# Altium footprint library CONN_USB_C.PcbLib: 34 footprints (part 2 of 3)
Each footprint in its own frame and in the unit in brackets; x right, y up, seen from the top. Pads: shape width x height; smd on the part's side, far side on the other; paste and mask are expansions set on the pad; w line width, h text height; cw(c..) or ccw(c..) is an arc to the next point about the centre after c.
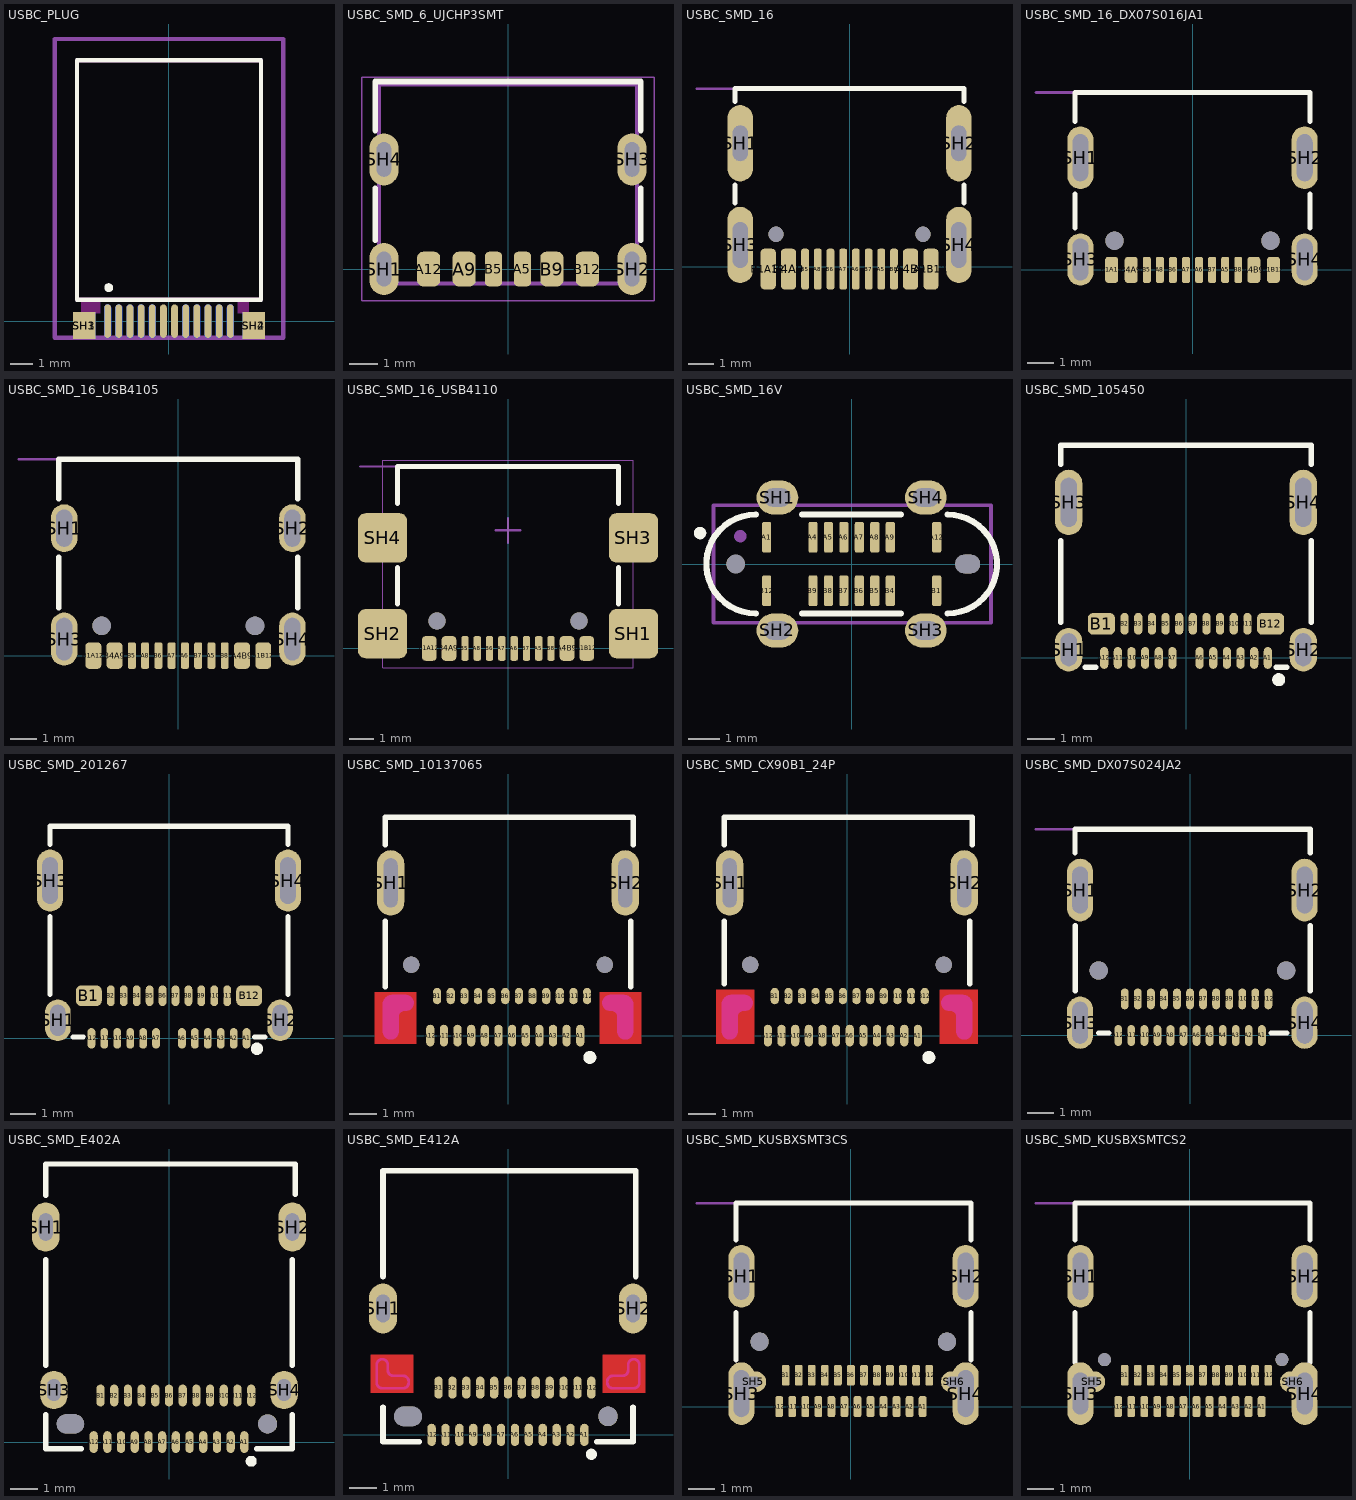
[diagram p1: the footprints below, top view; thin cyan lines are the x and y axes]

## USBC_PLUG [mm] "CONN, USB C , PLUG"
pads (26):
  oval 0.3x1.5 smd mask+0.075: A1(-2.75,0) A2(-2.25,0) A3(-1.75,0) A4(-1.25,0) A5(-0.75,0) A6(-0.25,0) A7(0.25,0) A8(0.75,0) A9(1.25,0) A10(1.75,0) A11(2.25,0) A12(2.75,0)
  oval 0.3x1.5 smd far side mask+0.075: B1(2.75,0) B2(2.25,0) B3(1.75,0) B4(1.25,0) B5(0.75,0) B8(-0.75,0) B9(-1.25,0) B10(-1.75,0) B11(-2.25,0) B12(-2.75,0)
  rect 1x1.2 smd: SH1(-3.8,-0.2) SH2(3.8,-0.2)
  rect 1x1.2 smd far side: SH3(-3.8,-0.2) SH4(3.8,-0.2)
Top Overlay:
  circle w0.2: c-2.7,1.5 r0.1
  lines w0.2: -4.125,0.95 -4.125,11.7 4.125,11.7 4.125,0.95 -4.125,0.95
Bottom Overlay:
  circle w0.2: c2.7,1.5 r0.1
  lines w0.2: -4.125,0.95 -4.125,11.7 4.125,11.7 4.125,0.95 -4.125,0.95
Keep-Out Layer:
  board cut-out: 3.58,0.95 3.58,0.35 3.08,0.35 3.08,0.95
  board cut-out: -3.075,0.95 -3.075,0.35 -3.945,0.35 -3.945,0.95
Keep-Out Layer:
  lines w0.2: -4.125,0.95 -4.125,11.7 4.125,11.7 4.125,0.95 -4.125,0.95
Mechanical 13:
  lines w0.2: -5.125,-0.75 -5.125,12.65 5.125,12.65 5.125,-0.75 -5.125,-0.75
3D body "632712000011.stp": height 1.9, standoff -2.3, extent -5.125,-0.75 5.125,12.65

## USBC_SMD_6_UJCHP3SMT [mm] "CONN, USB, Type C, UJC-HP-3-SMT, popular*"
pads (10):
  rrect50% 0.6x1.2 smd mask+0.075: A5(0.5,0) B5(-0.5,0)
  rrect50% 0.8x1.2 smd mask+0.075: A9(-1.52,0) A12(-2.75,0) B9(1.52,0) B12(2.75,0)
  oval 1x1.8 hole 0.5 slot 1.2 at 90 deg: SH1(-4.3,0) SH2(4.3,0) SH3(4.3,3.8) SH4(-4.3,3.8)
Top Overlay:
  lines w0.2: -4.6,1 -4.6,2.8 ; -4.6,4.8 -4.6,6.5 4.6,6.5 4.6,4.8 ; 4.6,1 4.6,2.8
Mechanical 13:
  lines w0.127: -4.47,-0.5 -4.47,6.4 4.47,6.4 4.47,-0.5 -4.47,-0.5
Mechanical 15:
  lines w0.05: -5.07,-1.1 -5.07,6.65 5.07,6.65 5.07,-1.1 -5.07,-1.1
3D body "UJC-HP-3-SMT-TR.step": height 3.23, standoff -1.03, extent -4.47,-0.519 4.47,6.381

## USBC_SMD_16 [mm] "CONN, USB, Type C, 2171790001"
height 3.31
pads (18):
  rrect50% 0.6x1.6 smd mask+0.05: A1B12(3.2,-0.1) A4B9(2.4,-0.1) B1A12(-3.2,-0.1) B4A9(-2.4,-0.1)
  rrect50% 0.3x1.6 smd mask+0.05: A5(1.25,-0.1) A6(0.25,-0.1) A7(-0.25,-0.1) A8(-1.25,-0.1) B5(-1.75,-0.1) B6(-0.75,-0.1) B7(0.75,-0.1) B8(1.75,-0.1)
  oval 1x3 hole 0.6 slot 1.4 at 90 deg mask+0.075: SH1(-4.3,4.85) SH2(4.3,4.85)
  oval 1x3 hole 0.6 slot 1.8 at 90 deg mask+0.075: SH3(-4.3,0.85) SH4(4.3,0.85)
  round 0.6 hole 0.6 unplated mask+0.075: ""(-2.89,1.27) ""(2.89,1.27)
Top Overlay:
  lines w0.2: -4.5,2.5 -4.5,3.2 ; -4.5,6.5 -4.5,7 4.5,7 4.5,6.5 ; 4.5,2.5 4.5,3.2
Mechanical 13:
  lines w0.1: -6,7 -4,7
  text "PCB EDGE" at -6,7.4 h0.8
3D body "step_temp.STEP": height 3.25, standoff -1.01, extent -4.475,-0.155 4.475,7.565

## USBC_SMD_16_DX07S016JA1 [mm] "CONN, USB, Type C, DX07S016JA1, popular*"
height 3.31
pads (18):
  rrect50% 0.5x1 smd mask+0.075: A1B12(3.1,0) A4B9(2.35,0) B1A12(-3.1,0) B4A9(-2.35,0)
  rrect50% 0.3x1 smd mask+0.075: A5(1.25,0) A6(0.25,0) A7(-0.25,0) A8(-1.25,0) B5(-1.75,0) B6(-0.75,0) B7(0.75,0) B8(1.75,0)
  oval 1x2.4 hole 0.6 slot 1.8 at 90 deg: SH1(-4.3,4.3) SH2(4.3,4.3)
  oval 1x2 hole 0.6 slot 1.6 at 90 deg: SH3(-4.3,0.4) SH4(4.3,0.4)
  round 0.7 hole 0.7 unplated: ""(-2.99,1.12) ""(2.99,1.12)
Top Overlay:
  lines w0.2: -4.5,1.6 -4.5,2.9 ; -4.5,5.7 -4.5,6.8 4.5,6.8 4.5,5.7 ; 4.5,1.6 4.5,2.9
Mechanical 13:
  lines w0.1: -6,6.8 -4,6.8
  text "PCB EDGE" at -6,7.2 h0.8
3D body "DX07S016JA1.STEP": height 3.18, standoff -0.88, extent -4.47,-0.2 4.47,6.7

## USBC_SMD_16_USB4105 [mm] "CONN, USB, Type C, USB4105, popular*"
height 3.31
pads (18):
  rrect50% 0.6x1 smd mask+0.075: A1B12(3.2,0) A4B9(2.4,0) B1A12(-3.2,0) B4A9(-2.4,0)
  rrect50% 0.3x1 smd mask+0.075: A5(1.25,0) A6(0.25,0) A7(-0.25,0) A8(-1.25,0) B5(-1.75,0) B6(-0.75,0) B7(0.75,0) B8(1.75,0)
  oval 1x1.8 hole 0.6 slot 1.4 at 90 deg: SH1(-4.3,4.8) SH2(4.3,4.8)
  oval 1x2 hole 0.6 slot 1.6 at 90 deg: SH3(-4.3,0.62) SH4(4.3,0.62)
  round 0.7 hole 0.7 unplated: ""(-2.89,1.12) ""(2.89,1.12)
Top Overlay:
  lines w0.2: -4.5,1.8 -4.5,3.7 ; -4.5,5.9 -4.5,7.4 4.5,7.4 4.5,5.9 ; 4.5,1.8 4.5,3.7
Mechanical 13:
  lines w0.1: -6,7.4 -4,7.4
  text "PCB EDGE" at -6,7.8 h0.8
3D body "USB4105-15-A.stp": height 3.26, standoff -0.9, extent -4.79,-0.3 4.79,7.408

## USBC_SMD_16_USB4110 [mm] "CONN, USB, Type C, USB4110"
height 3.26
pads (18):
  rrect50% 0.6x1 smd mask+0.075: A1B12(3.2,0) A4B9(2.4,0) B1A12(-3.2,0) B4A9(-2.4,0)
  rrect50% 0.3x1 smd mask+0.075: A5(1.25,0) A6(0.25,0) A7(-0.25,0) A8(-1.25,0) B5(-1.75,0) B6(-0.75,0) B7(0.75,0) B8(1.75,0)
  rrect30% 2x2 smd: SH1(5.1,0.6) SH2(-5.1,0.6) SH3(5.1,4.5) SH4(-5.1,4.5)
  round 0.7 hole 0.7 unplated: ""(-2.89,1.12) ""(2.89,1.12)
Top Overlay:
  lines w0.2: -4.5,1.8 -4.5,3.3 ; -4.5,5.9 -4.5,7.4 4.5,7.4 4.5,5.9 ; 4.5,1.8 4.5,3.3
Mechanical 13:
  lines w0.1: -6,7.4 -4,7.4
  text "PCB EDGE" at -6,7.8 h0.8
Mechanical 15:
  lines w0.05: -5.1,-0.78 -5.1,7.65 5.1,7.65 5.1,-0.78 -5.1,-0.78
  lines w0.1: -0.5,4.8 0.5,4.8 ; 0,4.3 0,5.3
3D body "USB4110-GF-A.stp": height 3.23, standoff -0.72, extent -5.65,-0.28 5.65,7.396

## USBC_SMD_16V [mm] "CONN, USB, Type C, SMD Vertical"
height 6.5
pads (22):
  rrect50% 0.3x1 smd mask+0.05: A1(-2.75,0.865) A4(-1.25,0.865) A5(-0.75,0.865) A6(-0.25,0.865) A7(0.25,0.865) A8(0.75,0.865) A9(1.25,0.865) A12(2.75,0.865) B1(2.75,-0.865) B4(1.25,-0.865) B5(0.75,-0.865) B6(0.25,-0.865) B7(-0.25,-0.865) B8(-0.75,-0.865) B9(-1.25,-0.865) B12(-2.75,-0.865)
  oval 1.35x1.1 hole 0.6 slot 0.85 at 0 deg: SH1(-2.4,2.15) SH2(-2.4,-2.15) SH3(2.4,-2.15) SH4(2.4,2.15)
  round 0.6 hole 0.6 unplated: ""(-3.75,0)
  oval 0.8x0.6 hole 0.6 slot 0.8 at 0 deg unplated: ""(3.75,0)
Top Overlay:
  circle w0.2: c-4.9,1 r0.1
  lines w0.2: -3.1,-1.6 cw(c-3.1,0) -3.1,1.6 ; -1.6,-1.6 1.6,-1.6 ; -1.6,1.6 1.6,1.6 ; 3.1,-1.6 ccw(c3.1,0) 3.1,1.6
Bottom Solder:
  region: 3.888,0.358 3.906,0.356 3.925,0.352 3.943,0.348 3.961,0.342 3.979,0.336 3.996,0.329 4.013,0.321 4.03,0.312 4.046,0.302 4.062,0.291 4.077,0.28 4.091,0.268 4.105,0.255 4.118,0.241 4.13,0.227 4.141,0.212 4.152,0.196 4.162,0.18 4.171,0.163 4.179,0.146 4.186,0.129 4.192,0.111 4.198,0.093 4.202,0.075 4.206,0.056 4.208,0.038 4.21,0.019 4.21,0 4.21,-0.019 4.208,-0.038 4.206,-0.056 4.202,-0.075 4.198,-0.093 4.192,-0.111 4.186,-0.129 4.179,-0.146 4.171,-0.163 4.162,-0.18 4.152,-0.196 4.141,-0.212 4.13,-0.227 4.118,-0.241 4.105,-0.255 4.091,-0.268 4.077,-0.28 4.062,-0.291 4.046,-0.302 4.03,-0.312 4.013,-0.321 3.996,-0.329 3.979,-0.336 3.961,-0.342 3.943,-0.348 3.925,-0.352 3.906,-0.356 3.888,-0.358 3.869,-0.36 3.631,-0.36 3.612,-0.358 3.594,-0.356 3.575,-0.352 3.557,-0.348 3.539,-0.342 3.521,-0.336 3.504,-0.329 3.487,-0.321 3.47,-0.312 3.454,-0.302 3.438,-0.291 3.423,-0.28 3.409,-0.268 3.395,-0.255 3.382,-0.241 3.37,-0.227 3.359,-0.212 3.348,-0.196 3.338,-0.18 3.329,-0.163 3.321,-0.146 3.314,-0.129 3.308,-0.111 3.302,-0.093 3.298,-0.075 3.294,-0.056 3.292,-0.038 3.29,-0.019 3.29,0 3.29,0.019 3.292,0.038 3.294,0.056 3.298,0.075 3.302,0.093 3.308,0.111 3.314,0.129 3.321,0.146 3.329,0.163 3.338,0.18 3.348,0.196 3.359,0.212 3.37,0.227 3.382,0.241 3.395,0.255 3.409,0.268 3.423,0.28 3.438,0.291 3.454,0.302 3.47,0.312 3.487,0.321 3.504,0.329 3.521,0.336 3.539,0.342 3.557,0.348 3.575,0.352 3.594,0.356 3.612,0.358 3.631,0.36 3.869,0.36
Mechanical 13:
  circle w0.2: c-3.6,0.9 r0.1
  lines w0.127: -4.47,-1.9 -4.47,1.9 4.5,1.9 4.5,-1.9 -4.47,-1.9
3D body "UJ20-C-V-C-1-SMT.step": height 6.5, standoff -0.95, extent -4.47,-2.3 4.47,2.3

## USBC_SMD_105450 [mm] "CONN, USB, Type C, SMD"
height 2.96
pads (28):
  oval 0.3x0.8 smd mask+0.075: A1(3,0) A2(2.5,0) A3(2,0) A4(1.5,0) A5(1,0) A6(0.5,0) A7(-0.5,0) A8(-1,0) A9(-1.5,0) A10(-2,0) A11(-2.5,0) A12(-3,0) B2(-2.25,1.25) B3(-1.75,1.25) B4(-1.25,1.25) B5(-0.75,1.25) B6(-0.25,1.25) B7(0.25,1.25) B8(0.75,1.25) B9(1.25,1.25) B10(1.75,1.25) B11(2.25,1.25)
  rrect50% 1x0.8 smd mask+0.075: B1(-3.1,1.25) B12(3.1,1.25)
  oval 1x1.6 hole 0.6 slot 1.2 at 90 deg: SH1(-4.3,0.3) SH2(4.3,0.3)
  oval 1x2.4 hole 0.6 slot 1.8 at 90 deg: SH3(-4.3,5.7) SH4(4.3,5.7)
Top Overlay:
  circle w0.25: c3.4,-0.8 r0.114
  lines w0.2: -4.6,1.3 -4.6,4.3 ; -4.6,7.1 -4.6,7.8 4.6,7.8 4.6,7.1 ; -3.7,-0.35 -3.3,-0.35 ; 3.3,-0.35 3.7,-0.35 ; 4.6,1.3 4.6,4.3
3D body "105450-0101.stp": height 3.23, standoff -0.73, extent -4.47,-0.25 4.47,7.65

## USBC_SMD_201267 [mm] "CONN, USB, Type C, SMD"
height 2.96
pads (28):
  oval 0.3x0.8 smd mask+0.075: A1(3,0) A2(2.5,0) A3(2,0) A4(1.5,0) A5(1,0) A6(0.5,0) A7(-0.5,0) A8(-1,0) A9(-1.5,0) A10(-2,0) A11(-2.5,0) A12(-3,0) B2(-2.25,1.65) B3(-1.75,1.65) B4(-1.25,1.65) B5(-0.75,1.65) B6(-0.25,1.65) B7(0.25,1.65) B8(0.75,1.65) B9(1.25,1.65) B10(1.75,1.65) B11(2.25,1.65)
  rrect50% 1x0.8 smd mask+0.075: B1(-3.1,1.65) B12(3.1,1.65)
  oval 1x1.6 hole 0.6 slot 1.2 at 90 deg: SH1(-4.3,0.7) SH2(4.3,0.7)
  oval 1x2.4 hole 0.6 slot 1.8 at 90 deg: SH3(-4.6,6.1) SH4(4.6,6.1)
Top Overlay:
  circle w0.25: c3.4,-0.4 r0.114
  lines w0.2: -4.6,1.7 -4.6,4.7 ; -4.6,7.5 -4.6,8.2 4.6,8.2 4.6,7.5 ; -3.7,0.05 -3.3,0.05 ; 3.3,0.05 3.7,0.05 ; 4.6,1.7 4.6,4.7
3D body "2012670005-000.stp": height 3.72, standoff -2.29, extent -4.695,-0.3 4.695,8

## USBC_SMD_10137065 [mm] "CONN, USB, Type C, SMD"
height 2.96
pads (28):
  oval 0.3x0.8 smd mask+0.075: A1(2.65,0) A2(2.15,0) A3(1.65,0) A4(1.15,0) A5(0.65,0) A6(0.15,0) A7(-0.35,0) A8(-0.85,0) A9(-1.35,0) A10(-1.85,0) A11(-2.35,0) A12(-2.85,0)
  oval 0.3x0.6 smd mask+0.075: B1(-2.6,1.45) B2(-2.1,1.45) B3(-1.6,1.45) B4(-1.1,1.45) B5(-0.6,1.45) B6(-0.1,1.45) B7(0.4,1.45) B8(0.9,1.45) B9(1.4,1.45) B10(1.9,1.45) B11(2.4,1.45) B12(2.9,1.45)
  oval 1x2.4 hole 0.5 slot 1.8 at 90 deg: SH1(-4.3,5.6) SH2(4.3,5.6)
  round 0.6 hole 0.6 unplated: ""(-3.55,2.6) ""(3.55,2.6)
Top Layer:
  region: -3.35,1.6 -4.9,1.6 -4.9,-0.3 -3.35,-0.3
  rectangle: 3.35,-0.3 4.9,1.6
Top Overlay:
  circle w0.25: c3,-0.8 r0.114
  lines w0.2: -4.5,1.8 -4.5,4.2 ; -4.5,7 -4.5,8 4.6,8 4.6,7 ; 4.5,1.8 4.5,4.2
Keep-Out Layer:
  board cut-out: -4.3,-0.1 -4.35,-0.1 -4.442,-0.062 -4.512,0.008 -4.55,0.1 -4.55,0.15 -4.55,1.15 -4.55,1.21 -4.504,1.32 -4.42,1.404 -4.31,1.45 -4.25,1.45 -3.75,1.45 -3.7,1.45 -3.608,1.412 -3.538,1.342 -3.5,1.25 -3.5,1.2 -3.5,1.15 -3.538,1.058 -3.608,0.988 -3.7,0.95 -3.75,0.95 -3.8,0.95 -3.849,0.945 -3.939,0.908 -4.008,0.839 -4.045,0.749 -4.05,0.7 -4.05,0.15 -4.05,0.1 -4.088,0.008 -4.158,-0.062 -4.25,-0.1
  board cut-out: 4.3,-0.1 4.35,-0.1 4.442,-0.062 4.512,0.008 4.55,0.1 4.55,0.15 4.55,1.15 4.55,1.21 4.504,1.32 4.42,1.404 4.31,1.45 4.25,1.45 3.75,1.45 3.7,1.45 3.608,1.412 3.538,1.342 3.5,1.25 3.5,1.2 3.5,1.15 3.538,1.058 3.608,0.988 3.7,0.95 3.75,0.95 3.8,0.95 3.849,0.945 3.939,0.908 4.008,0.839 4.045,0.749 4.05,0.7 4.05,0.15 4.05,0.1 4.088,0.008 4.158,-0.062 4.25,-0.1
Keep-Out Layer:
  lines w0.1: -4.55,0.15 ccw(c-4.3,0.15) -4.3,-0.1 ccw(c-4.3,0.15) -4.05,0.15 -4.05,0.7 cw(c-3.8,0.7) -3.8,0.95 -3.75,0.95 ccw(c-3.75,1.2) -3.5,1.2 ccw(c-3.75,1.2) -3.75,1.45 -4.25,1.45 ccw(c-4.25,1.15) -4.55,1.15 -4.55,0.15 ; 3.5,1.2 ccw(c3.75,1.2) 3.75,0.95 3.8,0.95 cw(c3.8,0.7) 4.05,0.7 4.05,0.15 ccw(c4.3,0.15) 4.3,-0.1 ccw(c4.3,0.15) 4.55,0.15 4.55,1.15 ccw(c4.25,1.15) 4.25,1.45 3.75,1.45 ccw(c3.75,1.2) 3.5,1.2
Mechanical 1:
  lines w0.5: -4.3,0.15 -4.3,1.2 -3.75,1.2 ; 3.75,1.2 4.3,1.2 4.3,0.15
3D body "10137065..stp": height 3.21, standoff -0.55, extent -4.445,-0.2 4.495,7.95

## USBC_SMD_CX90B1_24P [mm] "CONN, USB, Type C, SMD, CX90B1-24P"
height 2.96
pads (28):
  oval 0.3x0.8 smd mask+0.075: A1(2.6,0) A2(2.1,0) A3(1.6,0) A4(1.1,0) A5(0.6,0) A6(0.1,0) A7(-0.4,0) A8(-0.9,0) A9(-1.4,0) A10(-1.9,0) A11(-2.4,0) A12(-2.9,0)
  oval 0.3x0.6 smd mask+0.075: B1(-2.65,1.45) B2(-2.15,1.45) B3(-1.65,1.45) B4(-1.15,1.45) B5(-0.65,1.45) B6(-0.15,1.45) B7(0.35,1.45) B8(0.85,1.45) B9(1.35,1.45) B10(1.85,1.45) B11(2.35,1.45) B12(2.85,1.45)
  oval 1x2.4 hole 0.5 slot 1.8 at 90 deg: SH1(-4.3,5.6) SH2(4.3,5.6)
  round 0.6 hole 0.6 unplated: ""(-3.55,2.6) ""(3.55,2.6)
Top Layer:
  rectangle: -4.8,-0.3 -3.4,1.7
  region: 4.8,1.7 3.4,1.7 3.4,-0.3 4.8,-0.3
Top Overlay:
  circle w0.25: c3,-0.8 r0.114
  lines w0.2: -4.5,1.9 -4.5,4.2 ; -4.5,7 -4.5,8 4.6,8 4.6,7 ; 4.5,1.9 4.5,4.2
Keep-Out Layer:
  board cut-out: 4.3,-0.1 4.35,-0.1 4.442,-0.062 4.512,0.008 4.55,0.1 4.55,0.15 4.55,1.15 4.55,1.21 4.504,1.32 4.42,1.404 4.31,1.45 4.25,1.45 3.75,1.45 3.7,1.45 3.608,1.412 3.538,1.342 3.5,1.25 3.5,1.2 3.5,1.15 3.538,1.058 3.608,0.988 3.7,0.95 3.75,0.95 3.8,0.95 3.849,0.945 3.939,0.908 4.008,0.839 4.045,0.749 4.05,0.7 4.05,0.15 4.05,0.1 4.088,0.008 4.158,-0.062 4.25,-0.1
  board cut-out: -4.3,-0.1 -4.35,-0.1 -4.442,-0.062 -4.512,0.008 -4.55,0.1 -4.55,0.15 -4.55,1.15 -4.55,1.21 -4.504,1.32 -4.42,1.404 -4.31,1.45 -4.25,1.45 -3.75,1.45 -3.7,1.45 -3.608,1.412 -3.538,1.342 -3.5,1.25 -3.5,1.2 -3.5,1.15 -3.538,1.058 -3.608,0.988 -3.7,0.95 -3.75,0.95 -3.8,0.95 -3.849,0.945 -3.939,0.908 -4.008,0.839 -4.045,0.749 -4.05,0.7 -4.05,0.15 -4.05,0.1 -4.088,0.008 -4.158,-0.062 -4.25,-0.1
Keep-Out Layer:
  lines w0.1: -4.55,0.15 ccw(c-4.3,0.15) -4.3,-0.1 ccw(c-4.3,0.15) -4.05,0.15 -4.05,0.7 cw(c-3.8,0.7) -3.8,0.95 -3.75,0.95 ccw(c-3.75,1.2) -3.5,1.2 ccw(c-3.75,1.2) -3.75,1.45 -4.25,1.45 ccw(c-4.25,1.15) -4.55,1.15 -4.55,0.15 ; 3.5,1.2 ccw(c3.75,1.2) 3.75,0.95 3.8,0.95 cw(c3.8,0.7) 4.05,0.7 4.05,0.15 ccw(c4.3,0.15) 4.3,-0.1 ccw(c4.3,0.15) 4.55,0.15 4.55,1.15 ccw(c4.25,1.15) 4.25,1.45 3.75,1.45 ccw(c3.75,1.2) 3.5,1.2
Mechanical 1:
  lines w0.5: -4.3,0.15 -4.3,1.2 -3.75,1.2 ; 3.75,1.2 4.3,1.2 4.3,0.15
3D body "CX90B1-24P.stp": height 3.19, standoff -0.57, extent -4.495,-0.2 4.445,7.95

## USBC_SMD_DX07S024JA2 [mm] "CONN, USB, Type C, DX07S024JA2"
height 3.31
pads (30):
  oval 0.3x0.8 smd mask+0.075: A1(2.75,0) A2(2.25,0) A3(1.75,0) A4(1.25,0) A5(0.75,0) A6(0.25,0) A7(-0.25,0) A8(-0.75,0) A9(-1.25,0) A10(-1.75,0) A11(-2.25,0) A12(-2.75,0) B1(-2.5,1.4) B2(-2,1.4) B3(-1.5,1.4) B4(-1,1.4) B5(-0.5,1.4) B6(0,1.4) B7(0.5,1.4) B8(1,1.4) B9(1.5,1.4) B10(2,1.4) B11(2.5,1.4) B12(3,1.4)
  oval 1x2.4 hole 0.6 slot 1.8 at 90 deg: SH1(-4.21,5.57) SH2(4.39,5.57)
  oval 1x2 hole 0.6 slot 1.6 at 90 deg: SH3(-4.21,0.49) SH4(4.39,0.49)
  round 0.7 hole 0.7 unplated: ""(-3.5,2.49) ""(3.68,2.49)
Top Overlay:
  lines w0.2: -4.41,7 -4.41,7.9 4.6,7.9 4.6,7 ; -4.4,1.7 -4.4,4.2 ; -3.5,0.1 -3.1,0.1 ; 3.1,0.1 3.7,0.1 ; 4.6,1.7 4.6,4.2
Mechanical 13:
  lines w0.1: -5.9,7.9 -3.9,7.9
  text "PCB EDGE" at -5.8,8.1 h0.8
3D body "DX07S024JA2.STEP": height 3.17, standoff -1.17, extent -4.355,-0.3 4.585,7.87

## USBC_SMD_E402A [mm] "CONN, USB, Type C, SMD, 12401598E4#2A, 12401610E4#2A"
height 3.2
pads (30):
  oval 0.3x0.8 smd mask+0.075: A1(2.75,0) A2(2.25,0) A3(1.75,0) A4(1.25,0) A5(0.75,0) A6(0.25,0) A7(-0.25,0) A8(-0.75,0) A9(-1.25,0) A10(-1.75,0) A11(-2.25,0) A12(-2.75,0) B1(-2.5,1.7) B2(-2,1.7) B3(-1.5,1.7) B4(-1,1.7) B5(-0.5,1.7) B6(0,1.7) B7(0.5,1.7) B8(1,1.7) B9(1.5,1.7) B10(2,1.7) B11(2.5,1.7) B12(3,1.7)
  oval 1x1.8 hole 0.5 slot 1 at 90 deg: SH1(-4.5,7.85) SH2(4.5,7.85)
  oval 1x1.4 hole 0.5 slot 0.8 at 90 deg: SH3(-4.2,1.9) SH4(4.2,1.9)
  oval 1x0.7 hole 0.7 slot 1 at 0 deg unplated mask+0.05: ""(-3.6,0.665)
  round 0.7 hole 0.7 unplated mask+0.05: ""(3.6,0.665)
Top Overlay:
  circle w0.2: c3,-0.7 r0.1
  lines w0.2: -4.5,1 -4.5,-0.25 -3.2,-0.25 ; -4.5,2.8 -4.5,6.65 ; -4.5,9 -4.5,10.15 4.6,10.15 4.6,9.05 ; 3.2,-0.25 4.5,-0.25 4.5,1 ; 4.5,2.8 4.5,6.65
3D body "12401610E4#2A.step": height 3.3, standoff -1.28, extent -4.6,-0.3 4.6,10.25

## USBC_SMD_E412A [mm] "CONN, USB, Type C, SMD, 12401899E412A"
height 3.2
pads (28):
  oval 0.3x0.8 smd mask+0.075: A1(2.75,0) A2(2.25,0) A3(1.75,0) A4(1.25,0) A5(0.75,0) A6(0.25,0) A7(-0.25,0) A8(-0.75,0) A9(-1.25,0) A10(-1.75,0) A11(-2.25,0) A12(-2.75,0) B1(-2.5,1.7) B2(-2,1.7) B3(-1.5,1.7) B4(-1,1.7) B5(-0.5,1.7) B6(0,1.7) B7(0.5,1.7) B8(1,1.7) B9(1.5,1.7) B10(2,1.7) B11(2.5,1.7) B12(3,1.7)
  oval 1x1.8 hole 0.5 slot 1 at 90 deg: SH1(-4.5,4.55) SH2(4.5,4.55)
  oval 1x0.7 hole 0.7 slot 1 at 0 deg unplated mask+0.05: ""(-3.6,0.665)
  round 0.7 hole 0.7 unplated mask+0.05: ""(3.6,0.665)
Top Layer:
  rectangle: -4.95,1.5 -3.4,2.9
  region: 4.95,2.9 3.4,2.9 3.4,1.5 4.95,1.5
Top Overlay:
  circle w0.2: c3,-0.7 r0.1
  lines w0.2: -4.5,1 -4.5,-0.25 -3.2,-0.25 ; -4.5,5.7 -4.5,9.5 4.6,9.5 4.6,5.7 ; 3.2,-0.25 4.5,-0.25 4.5,1
Keep-Out Layer:
  lines w0.1: -4.725,1.875 ccw(c-4.525,1.875) -4.525,1.675 -3.775,1.675 ccw(c-3.775,1.875) -3.575,1.875 -3.575,1.925 ccw(c-3.775,1.925) -3.775,2.125 -4.125,2.125 cw(c-4.125,2.325) -4.325,2.325 -4.325,2.525 ccw(c-4.525,2.525) -4.525,2.725 ccw(c-4.525,2.525) -4.725,2.525 -4.725,1.875 ; 3.575,1.875 ccw(c3.775,1.875) 3.775,1.675 4.525,1.675 ccw(c4.525,1.875) 4.725,1.875 4.725,2.525 ccw(c4.525,2.525) 4.525,2.725 ccw(c4.525,2.525) 4.325,2.525 4.325,2.325 cw(c4.125,2.325) 4.125,2.125 3.775,2.125 ccw(c3.775,1.925) 3.575,1.925 3.575,1.875
Mechanical 1:
  lines w0.5: -4.525,2.5 -4.525,1.9 -3.8,1.9 ; 3.8,1.9 4.525,1.9 4.525,2.5
3D body "12401899.stp": height 3.45, standoff -0.9, extent -4.59,-0.3 4.59,9.35

## USBC_SMD_KUSBXSMT3CS [mm] "CONN, USB, Type C, KUSBX-SMT3-CS"
height 3.31
pads (32):
  rrect50% 0.3x0.8 smd mask+0.075: A1(2.75,0) A2(2.25,0) A3(1.75,0) A4(1.25,0) A5(0.75,0) A6(0.25,0) A7(-0.25,0) A8(-0.75,0) A9(-1.25,0) A10(-1.75,0) A11(-2.25,0) A12(-2.75,0) B1(-2.5,1.2) B2(-2,1.2) B3(-1.5,1.2) B4(-1,1.2) B5(-0.5,1.2) B6(0,1.2) B7(0.5,1.2) B8(1,1.2) B9(1.5,1.2) B10(2,1.2) B11(2.5,1.2) B12(3,1.2)
  oval 1x2.4 hole 0.6 slot 1.8 at 90 deg: SH1(-4.2,5) SH2(4.4,5) SH3(-4.2,0.5) SH4(4.4,0.5)
  oval 1x0.8 hole 0.4 slot 0.6 at 0 deg: SH5(-3.75,0.95) SH6(3.95,0.95)
  round 0.7 hole 0.7 unplated: ""(-3.5,2.49) ""(3.68,2.49)
Top Overlay:
  lines w0.2: -4.41,6.4 -4.41,7.8 4.6,7.8 4.6,6.4 ; -4.4,1.8 -4.4,3.6 ; 4.6,1.8 4.6,3.6
Mechanical 13:
  lines w0.1: -5.9,7.8 -3.9,7.8
  text "PCB EDGE" at -5.8,8 h0.8
3D body "KUSBX-SMT3-CS.STEP": height 3.21, standoff -1.95, extent -4.345,-0.4 4.595,7.7

## USBC_SMD_KUSBXSMTCS2 [mm] "CONN, USB, Type C, KUSBX-SMT-CS2"
height 3.31
pads (32):
  rrect50% 0.3x0.8 smd mask+0.075: A1(2.75,0) A2(2.25,0) A3(1.75,0) A4(1.25,0) A5(0.75,0) A6(0.25,0) A7(-0.25,0) A8(-0.75,0) A9(-1.25,0) A10(-1.75,0) A11(-2.25,0) A12(-2.75,0) B1(-2.5,1.2) B2(-2,1.2) B3(-1.5,1.2) B4(-1,1.2) B5(-0.5,1.2) B6(0,1.2) B7(0.5,1.2) B8(1,1.2) B9(1.5,1.2) B10(2,1.2) B11(2.5,1.2) B12(3,1.2)
  oval 1x2.4 hole 0.6 slot 1.8 at 90 deg: SH1(-4.2,5) SH2(4.4,5)
  oval 1x2.4 hole 0.6 slot 1.6 at 90 deg: SH3(-4.2,0.5) SH4(4.4,0.5)
  oval 1x0.8 hole 0.4 slot 0.6 at 0 deg: SH5(-3.75,0.95) SH6(3.95,0.95)
  round 0.5 hole 0.5 unplated: ""(-3.275,1.8) ""(3.525,1.8)
Top Overlay:
  lines w0.2: -4.41,6.4 -4.41,7.8 4.6,7.8 4.6,6.4 ; -4.4,1.7 -4.4,3.6 ; 4.6,1.7 4.6,3.6
Mechanical 13:
  lines w0.1: -5.9,7.8 -3.9,7.8
  text "PCB EDGE" at -5.8,8 h0.8
3D body "KUSBX-SMT-CS2.STEP": height 3.18, standoff -0.58, extent -4.345,-0.4 4.595,7.7